# Altium footprint library Cap_TDK_C1608X5R1A106M080AC_220nF.PcbLib: 1 footprints
Each footprint in its own frame and in the unit in brackets; x right, y up, seen from the top. Pads: shape width x height; smd on the part's side, far side on the other; paste and mask are expansions set on the pad; w line width, h text height; cw(c..) or ccw(c..) is an arc to the next point about the centre after c.
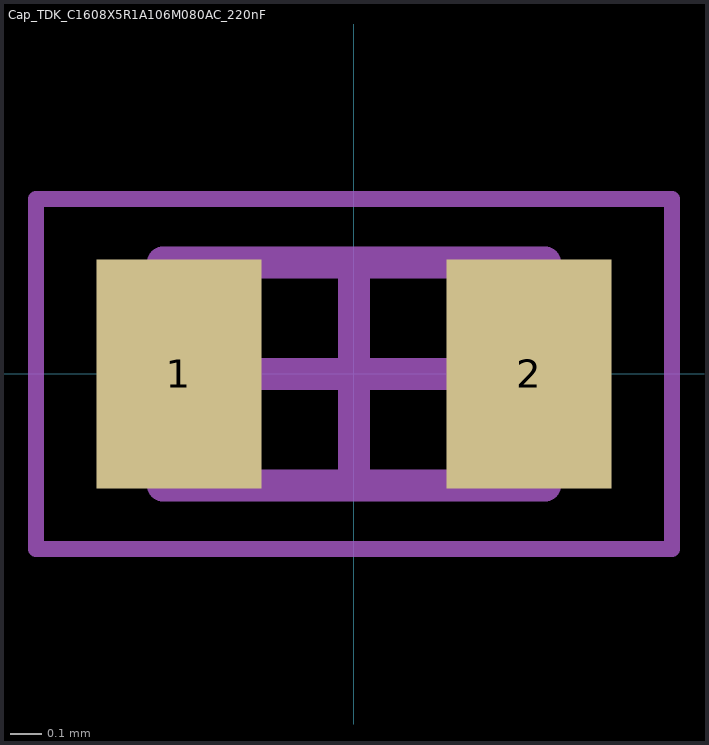
[diagram p0: the footprint, top view; thin cyan lines are the x and y axes]

## Cap_TDK_C1608X5R1A106M080AC_220nF [mm]
height 0.5
pads (2):
  rect 0.52x0.72 smd: 1(-0.55,0) 2(0.55,0)
Mechanical 13:
  lines w0.1: -0.6,-0.35 -0.6,0.35 0.6,0.35 0.6,-0.35 -0.6,-0.35
Mechanical 15:
  lines w0.05: -1,-0.55 -1,0.55 1,0.55 1,-0.55 -1,-0.55
  lines w0.1: -0.35,0 0.35,0 ; 0,-0.35 0,0.35
3D body "Chip2PinSM127P600-8N.step": height 0.5, standoff 0, extent -0.6,-0.35 0.6,0.35